# Altium schematic symbol library EEPROM_93x66xOT.SchLib: 1 symbol
Pins are listed as number, name and electrical type; pins without a type are passive.

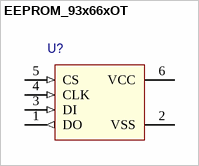
[diagram p0: symbol EEPROM_93x66xOT]

## EEPROM_93x66xOT
designator U?  (value not drawn)
pins: 1 DO (out), 2 VSS (power), 3 DI (in), 4 CLK (in), 5 CS (in), 6 VCC (power)